# Altium footprint library R_SMD.PcbLib: 15 footprints
Each footprint in its own frame and in the unit in brackets; x right, y up, seen from the top. Pads: shape width x height; smd on the part's side, far side on the other; paste and mask are expansions set on the pad; w line width, h text height; cw(c..) or ccw(c..) is an arc to the next point about the centre after c.
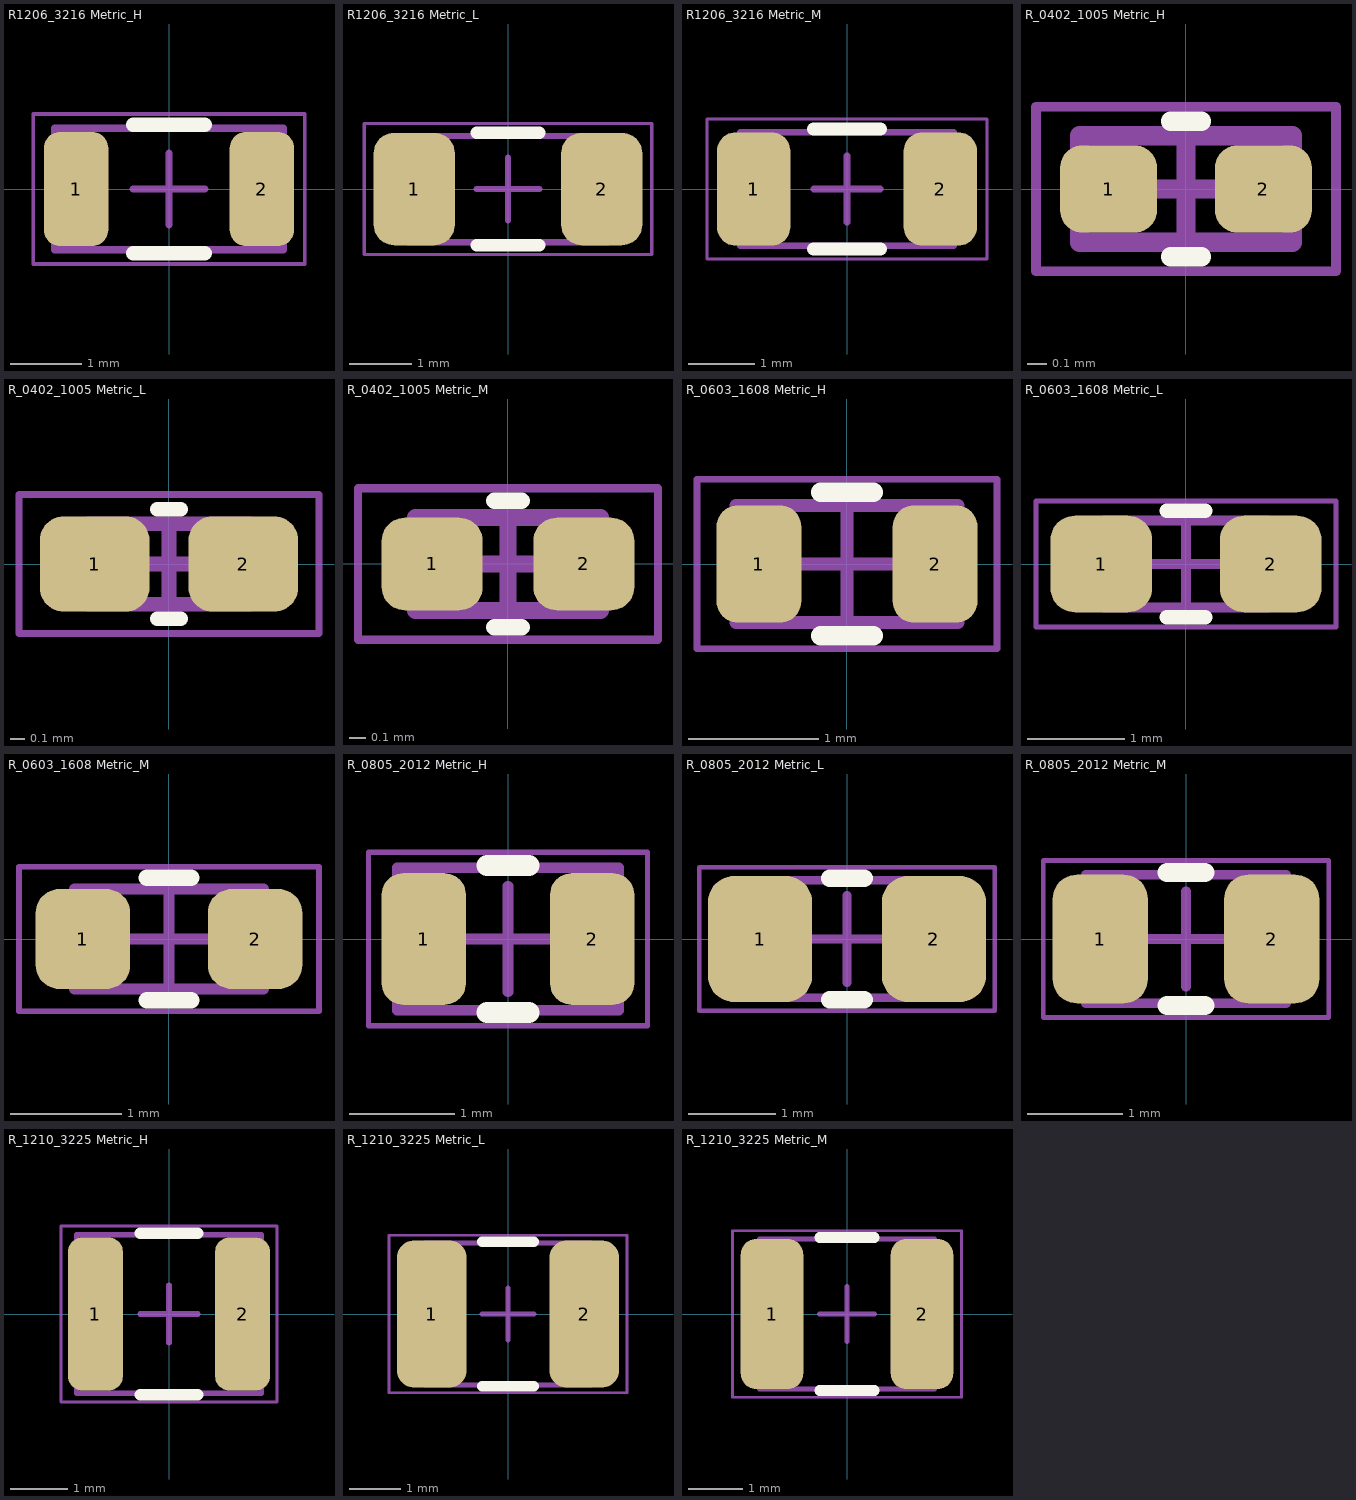
[diagram p0: the footprints below, top view; thin cyan lines are the x and y axes]

## R1206_3216 Metric_H [mm] "Chip Resistor, 2-Leads, Body 3.10x1.60mm, IPC High Density"
height 0.7
pads (2):
  rrect50% 0.9x1.6 smd: 1(-1.3,0) 2(1.3,0)
Top Overlay:
  lines w0.2: -0.5,-0.9 0.5,-0.9 ; -0.5,0.9 0.5,0.9
Mechanical 13:
  lines w0.1: -1.6,-0.85 -1.6,0.85 1.6,0.85 1.6,-0.85 -1.6,-0.85
Mechanical 15:
  lines w0.05: -1.9,-1.05 1.9,-1.05 1.9,1.05 -1.9,1.05 -1.9,-1.05
  lines w0.1: -0.5,0 0.5,0 ; 0,-0.5 0,0.5
3D body "R1206_3216 Metric_H.step": height 0.7, standoff 0, extent -1.6,-0.85 1.6,0.85

## R1206_3216 Metric_L [mm] "Chip Resistor, 2-Leads, Body 3.10x1.60mm, IPC Low Density"
height 0.7
pads (2):
  rrect50% 1.3x1.8 smd: 1(-1.5,0) 2(1.5,0)
Top Overlay:
  lines w0.2: -0.5,-0.9 0.5,-0.9 ; -0.5,0.9 0.5,0.9
Mechanical 13:
  lines w0.1: -1.6,-0.85 -1.6,0.85 1.6,0.85 1.6,-0.85 -1.6,-0.85
Mechanical 15:
  lines w0.05: -2.3,-1.05 2.3,-1.05 2.3,1.05 -2.3,1.05 -2.3,-1.05
  lines w0.1: -0.5,0 0.5,0 ; 0,-0.5 0,0.5
3D body "R1206_3216 Metric_L.step": height 0.7, standoff 0, extent -1.6,-0.85 1.6,0.85

## R1206_3216 Metric_M [mm] "Chip Resistor, 2-Leads, Body 3.10x1.60mm, IPC Medium Density"
height 0.7
pads (2):
  rrect50% 1.1x1.7 smd: 1(-1.4,0) 2(1.4,0)
Top Overlay:
  lines w0.2: -0.5,-0.9 0.5,-0.9 ; -0.5,0.9 0.5,0.9
Mechanical 13:
  lines w0.1: -1.6,-0.85 1.6,-0.85 1.6,0.85 -1.6,0.85 -1.6,-0.85
Mechanical 15:
  lines w0.05: -2.1,-1.05 2.1,-1.05 2.1,1.05 -2.1,1.05 -2.1,-1.05
  lines w0.1: -0.5,0 0.5,0 ; 0,-0.5 0,0.5
3D body "R1206_3216 Metric_M.step": height 0.7, standoff 0, extent -1.6,-0.85 1.6,0.85

## R_0402_1005 Metric_H [mm] "Chip Resistor, 2-Leads, Body 1.00x0.50mm, IPC High Density"
height 0.35
pads (2):
  rrect50% 0.5x0.45 smd: 1(-0.4,0) 2(0.4,0)
Top Overlay:
  lines w0.1: -0.08,-0.35 0.08,-0.35 ; -0.08,0.35 0.08,0.35
Mechanical 13:
  lines w0.1: -0.55,-0.275 -0.55,0.275 0.55,0.275 0.55,-0.275 -0.55,-0.275
Mechanical 15:
  lines w0.05: -0.775,-0.425 0.775,-0.425 0.775,0.425 -0.775,0.425 -0.775,-0.425
  lines w0.1: -0.275,0 0.275,0 ; 0,-0.275 0,0.275
3D body "R_0402_1005 Metric_H.step": height 0.35, standoff 0, extent -0.55,-0.275 0.55,0.275

## R_0402_1005 Metric_L [mm] "Chip Resistor, 2-Leads, Body 1.00x0.50mm, IPC Low Density"
height 0.35
pads (2):
  rrect50% 0.75x0.65 smd: 1(-0.508,0) 2(0.508,0)
Top Overlay:
  lines w0.1: -0.08,-0.375 0.08,-0.375 ; -0.08,0.375 0.08,0.375
Mechanical 13:
  lines w0.1: -0.55,-0.275 -0.55,0.275 0.55,0.275 0.55,-0.275 -0.55,-0.275
Mechanical 15:
  lines w0.05: -1.025,-0.475 1.025,-0.475 1.025,0.475 -1.025,0.475 -1.025,-0.475
  lines w0.1: -0.275,0 0.275,0 ; 0,-0.275 0,0.275
3D body "R_0603_0201 Metric_L.step": height 0.35, standoff 0, extent -0.55,-0.275 0.55,0.275

## R_0402_1005 Metric_M [mm] "Chip Resistor, 2-Leads, Body 1.00x0.50mm, IPC Medium Density"
height 0.35
pads (2):
  rrect50% 0.6x0.55 smd: 1(-0.45,0) 2(0.45,0)
Top Overlay:
  lines w0.1: -0.08,-0.375 0.08,-0.375 ; -0.08,0.375 0.08,0.375
Mechanical 13:
  lines w0.1: -0.55,-0.275 -0.55,0.275 0.55,0.275 0.55,-0.275 -0.55,-0.275
Mechanical 15:
  lines w0.05: -0.89,-0.45 0.89,-0.45 0.89,0.45 -0.89,0.45 -0.89,-0.45
  lines w0.1: -0.275,0 0.275,0 ; 0,-0.275 0,0.275
3D body "R_0603_0201 Metric_M.step": height 0.35, standoff 0, extent -0.55,-0.275 0.55,0.275

## R_0603_1608 Metric_H [mm] "Chip Resistor, 2-Leads, Body 1.60x0.80mm, IPC High Density"
height 0.5
pads (2):
  rrect50% 0.65x0.9 smd: 1(-0.675,0) 2(0.675,0)
Top Overlay:
  lines w0.15: -0.2,-0.55 0.2,-0.55 ; -0.2,0.55 0.2,0.55
Mechanical 13:
  lines w0.1: -0.85,-0.45 -0.85,0.45 0.85,0.45 0.85,-0.45 -0.85,-0.45
Mechanical 15:
  lines w0.05: -1.15,-0.65 1.15,-0.65 1.15,0.65 -1.15,0.65 -1.15,-0.65
  lines w0.1: -0.45,0 0.45,0 ; 0,-0.45 0,0.45
3D body "R_0603_1608 Metric_H.step": height 0.5, standoff 0, extent -0.85,-0.45 0.85,0.45

## R_0603_1608 Metric_L [mm] "Chip Resistor, 2-Leads, Body 1.60x0.80mm, IPC Low Density"
height 0.5
pads (2):
  rrect50% 1.05x1 smd: 1(-0.875,0) 2(0.875,0)
Top Overlay:
  lines w0.15: -0.2,-0.55 0.2,-0.55 ; -0.2,0.55 0.2,0.55
Mechanical 13:
  lines w0.1: -0.85,-0.45 -0.85,0.45 0.85,0.45 0.85,-0.45 -0.85,-0.45
Mechanical 15:
  lines w0.05: -1.55,-0.65 1.55,-0.65 1.55,0.65 -1.55,0.65 -1.55,-0.65
  lines w0.1: -0.45,0 0.45,0 ; 0,-0.45 0,0.45
3D body "R_0603_1608 Metric_L.step": height 0.5, standoff 0, extent -0.85,-0.45 0.85,0.45

## R_0603_1608 Metric_M [mm] "Chip Resistor, 2-Leads, Body 1.60x0.80mm, IPC Medium Density"
height 0.5
pads (2):
  rrect50% 0.85x0.9 smd: 1(-0.775,0) 2(0.775,0)
Top Overlay:
  lines w0.15: -0.2,-0.55 0.2,-0.55 ; -0.2,0.55 0.2,0.55
Mechanical 13:
  lines w0.1: -0.85,-0.45 -0.85,0.45 0.85,0.45 0.85,-0.45 -0.85,-0.45
Mechanical 15:
  lines w0.05: -1.35,-0.65 1.35,-0.65 1.35,0.65 -1.35,0.65 -1.35,-0.65
  lines w0.1: -0.45,0 0.45,0 ; 0,-0.45 0,0.45
3D body "R_0603_1608 Metric_M.step": height 0.5, standoff 0, extent -0.85,-0.45 0.85,0.45

## R_0805_2012 Metric_H [mm] "Chip Resistor, 2-Leads, Body 2.00x1.25mm, IPC High Density"
height 0.6
pads (2):
  rrect50% 0.8x1.25 smd: 1(-0.8,0) 2(0.8,0)
Top Overlay:
  lines w0.2: -0.2,-0.7 0.2,-0.7 ; -0.2,0.7 0.2,0.7
Mechanical 13:
  lines w0.1: -1.05,-0.675 1.05,-0.675 1.05,0.675 -1.05,0.675 -1.05,-0.675
Mechanical 15:
  lines w0.05: -1.325,-0.825 1.325,-0.825 1.325,0.825 -1.325,0.825 -1.325,-0.825
  lines w0.1: -0.5,0 0.5,0 ; 0,-0.5 0,0.5
3D body "R_0805_2012 Metric_H.step": height 0.6, standoff 0, extent -1.05,-0.675 1.05,0.675

## R_0805_2012 Metric_L [mm] "Chip Resistor, 2-Leads, Body 2.00x1.25mm, IPC Low Density"
height 0.6
pads (2):
  rrect50% 1.2x1.45 smd: 1(-1,0) 2(1,0)
Top Overlay:
  lines w0.2: -0.2,-0.7 0.2,-0.7 ; -0.2,0.7 0.2,0.7
Mechanical 13:
  lines w0.1: -1.05,-0.675 1.05,-0.675 1.05,0.675 -1.05,0.675 -1.05,-0.675
Mechanical 15:
  lines w0.05: -1.7,-0.825 1.7,-0.825 1.7,0.825 -1.7,0.825 -1.7,-0.825
  lines w0.1: -0.5,0 0.5,0 ; 0,-0.5 0,0.5
3D body "R_0805_2012 Metric_L.step": height 0.6, standoff 0, extent -1.05,-0.675 1.05,0.675

## R_0805_2012 Metric_M [mm] "Chip Resistor, 2-Leads, Body 2.00x1.25mm, IPC Medium Density"
height 0.6
pads (2):
  rrect50% 1x1.35 smd: 1(-0.9,0) 2(0.9,0)
Top Overlay:
  lines w0.2: -0.2,-0.7 0.2,-0.7 ; -0.2,0.7 0.2,0.7
Mechanical 13:
  lines w0.1: -1.05,-0.675 1.05,-0.675 1.05,0.675 -1.05,0.675 -1.05,-0.675
Mechanical 15:
  lines w0.05: -1.5,-0.825 1.5,-0.825 1.5,0.825 -1.5,0.825 -1.5,-0.825
  lines w0.1: -0.5,0 0.5,0 ; 0,-0.5 0,0.5
3D body "R_0805_2012 Metric_M.step": height 0.6, standoff 0, extent -1.05,-0.675 1.05,0.675

## R_1210_3225 Metric_H [mm] "Chip Resistor, 2-Leads, Body 3.10x2.60mm, IPC High Density"
height 0.7
pads (2):
  rrect50% 0.95x2.65 smd: 1(-1.275,0) 2(1.275,0)
Top Overlay:
  lines w0.2: -0.5,-1.4 0.5,-1.4 ; -0.5,1.4 0.5,1.4
Mechanical 13:
  lines w0.1: -1.6,-1.375 1.6,-1.375 1.6,1.375 -1.6,1.375 -1.6,-1.375
Mechanical 15:
  lines w0.05: -1.875,-1.525 1.875,-1.525 1.875,1.525 -1.875,1.525 -1.875,-1.525
  lines w0.1: -0.5,0 0.5,0 ; 0,-0.5 0,0.5
3D body "R_1210_3225 Metric_H.step": height 0.7, standoff 0, extent -1.6,-1.375 1.6,1.375

## R_1210_3225 Metric_L [mm] "Chip Resistor, 2-Leads, Body 3.10x2.60mm, IPC Low Density"
height 0.7
pads (2):
  rrect50% 1.35x2.85 smd: 1(-1.475,0) 2(1.475,0)
Top Overlay:
  lines w0.2: -0.5,-1.4 0.5,-1.4 ; -0.5,1.4 0.5,1.4
Mechanical 13:
  lines w0.1: -1.6,-1.375 1.6,-1.375 1.6,1.375 -1.6,1.375 -1.6,-1.375
Mechanical 15:
  lines w0.05: -2.3,-1.525 2.3,-1.525 2.3,1.525 -2.3,1.525 -2.3,-1.525
  lines w0.1: -0.5,0 0.5,0 ; 0,-0.5 0,0.5
3D body "R_1210_3225 Metric_L.step": height 0.7, standoff 0, extent -1.6,-1.375 1.6,1.375

## R_1210_3225 Metric_M [mm] "Chip Resistor, 2-Leads, Body 3.10x2.60mm, IPC Medium Density"
height 0.7
pads (2):
  rrect50% 1.15x2.75 smd: 1(-1.375,0) 2(1.375,0)
Top Overlay:
  lines w0.2: -0.5,-1.4 0.5,-1.4 ; -0.5,1.4 0.5,1.4
Mechanical 13:
  lines w0.1: -1.6,-1.375 1.6,-1.375 1.6,1.375 -1.6,1.375 -1.6,-1.375
Mechanical 15:
  lines w0.05: -2.1,-1.525 2.1,-1.525 2.1,1.525 -2.1,1.525 -2.1,-1.525
  lines w0.1: -0.5,0 0.5,0 ; 0,-0.5 0,0.5
3D body "R_1210_3225 Metric_M.step": height 0.7, standoff 0, extent -1.6,-1.375 1.6,1.375